# Altium integrated library Linear Technology PMIC-Switching Reg LT1074-LT8705.IntLib: 2252 symbols (part 91 of 124)
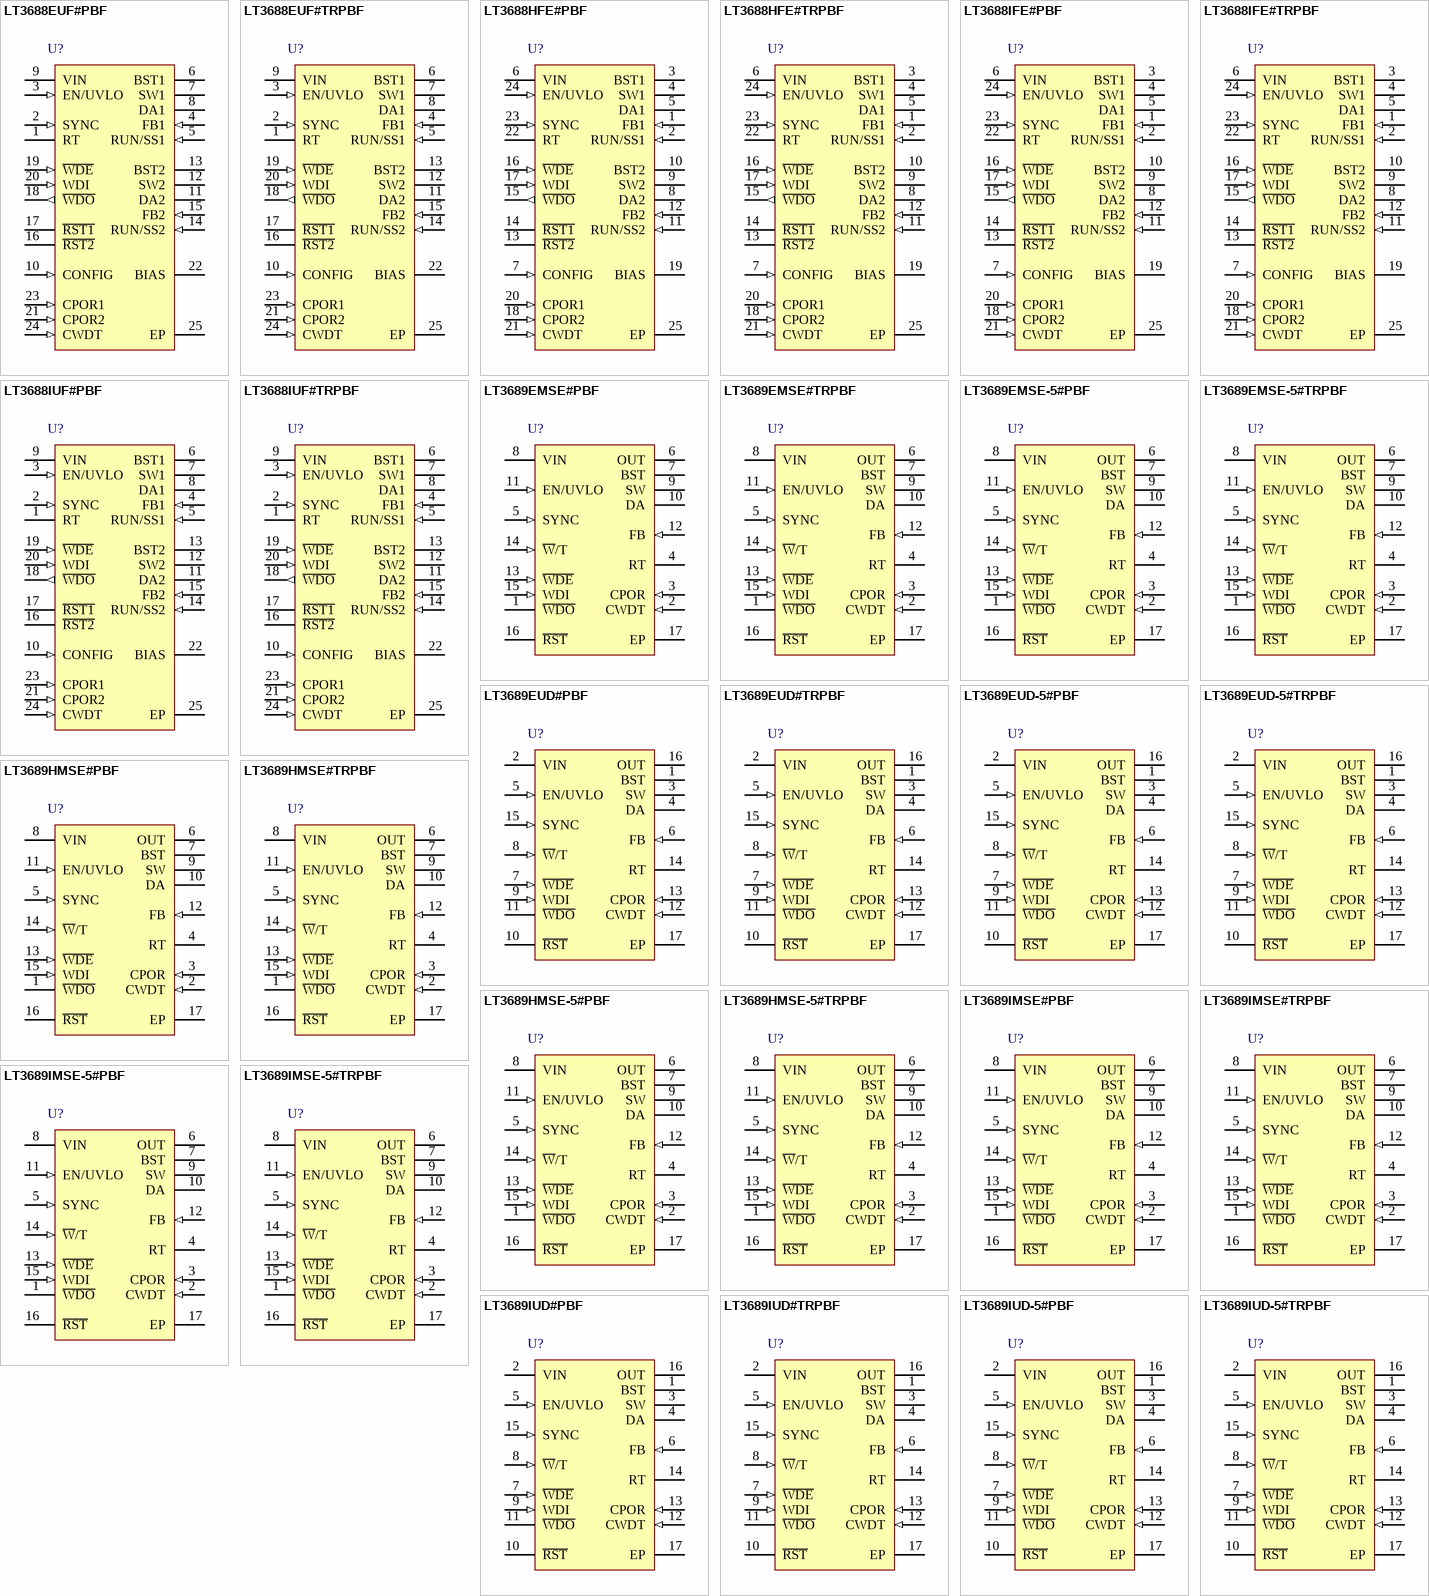
[diagram p161: symbols LT3688EUF#PBF to LT3689IUD-5#TRPBF]

## LT3689EMSE-5#TRPBF
designator U?
700 mA Step-Down Regulator with Power-On Reset and Watchdog Timer, 16-pin SOP (MSE-16-EDP), -40 to 125 degC, Pb-Free, Tape and Reel; Manufacturer: Linear Technology; PartNumber: LT3689EMSE-5#TRPBF; Number of Outputs: 1; PackageReference: MSE-16; PackageDescription: 16-Pin Plastic MSOP, Exposed Die Pad, Body 4.039 x 3 mm, Pitch 0.5 mm; Supplier 1: Digi-Key; Supplier Part Number 1: LT3689EMSE-5#TRPBF-ND; RoHS: TRUE
footprint LT-MSE-16-EDP_N (SOP, 16-Leads, Body 4.1x3.1mm, Pitch 0.5mm, Thermal Pad 2.95x1.76mm, IPC Medium Density)
footprint LT-MSE-16-EDP_L (SOP, 16-Leads, Body 4.1x3.1mm, Pitch 0.5mm, Thermal Pad 2.95x1.76mm, IPC High Density)
footprint LT-MSE-16-EDP_M (SOP, 16-Leads, Body 4.1x3.1mm, Pitch 0.5mm, Thermal Pad 2.95x1.76mm, IPC Low Density)
pins: 1 ~{WDO} (oc) "Active low, open collector logic output with weak pull-up to VOUT. W\D\O\ pulls low if the W\D\E\ is enabled and the microprocessor fails to drive the W\D\I\ pin of the LT3689 with an appropriate signal.", 2 CWDT (in) "Watchdog Timer Programming Pin. Place a capacitor (CWDT) between this pin and ground to adjust the watchdog upper and lower boundary period. To determine the watchdog upper boundary period, and the lower boundary period, use (See Datasheet)", 3 CPOR (in) "Reset Delay Timer Programming Pin. Attach an external capacitor (CPOR) to GND to set a reset delay time of 2.3ms/nF.", 4 RT "Sets the Internal Oscillator Frequency. Tie a 31.6k resistor from RT to GND for a 500kHz switching frequency.", 5 SYNC (in) "Drive the SYNC pin with a logic level signal with positive and negative pulse widths of at least 80ns. The RT resistor should be chosen to set the LT3689 switching frequency at least 20% below the lowest synchronization (See Datasheet)", 6 OUT (power) "The OUT pin supplies current to the internal circuitry when OUT is above 3V, reducing input quiescent current. The internal Schottky diode is connected from OUT to BST, providing the charging path for the boost capacitor. (See Datasheet)", 7 BST "The BST pin is used to provide drive voltage higher than the input voltage to the internal NPN power switch.", 8 VIN (power) "The VIN pin supplies current to the LT3689’s internal circuitry and to the internal power switch and must be locally bypassed.", 9 SW (power) "The SW pin is the output of the internal power switch. Connect this pin to the inductor, catch diode and boost capacitor.", 10 DA "Tie the DA pin to the anode of the external catch Schottky diode. If the DA pin current exceeds 1.2A, which could occur in an overload or short-circuit condition, switching is disabled until the DA pin current falls below 1.(See Datasheet)", 11 EN/UVLO (in) "The EN/UVLO pin is used to put the LT3689 in shutdown mode. Pull the pin below 0.3V to shut down the LT3689. The 1.26V threshold can function as an accurate undervoltage lockout (UVLO), preventing the regulator from (See Datasheet)", 12 FB (in) "The LT3689 regulates the feedback pin to 0.800V. Connect the feedback resistor divider tap to this pin. For the fixed LT3689-5 output, this pin can be used to connect a phase lead capacitor between the OUT pin and FB pin to (See Datasheet)", 13 ~{WDE} (in) "Watchdog Timer Enable Pin. This pin disables the watchdog timer if the W\D\E\ voltage exceeds 1V. W\D\O\ is high in this condition.", 14 ~{W}/T (in) "Setting W\/T low puts the LT3689 watchdog timer into window mode. If two or more negative edges occur on WDI before the watchdog lower boundary (tWDL) period expires, or no negative edge occurs within the watchdog upper (See Datasheet)", 15 WDI (in) "Watchdog Timer Input Pin. This pin receives the watchdog signal from a microprocessor. If the appropriate signal is not received, the part will pulse W\D\O\ low for a period equal to the reset timeout period. The watchdog (See Datasheet)", 16 ~{RST} (oc) "Active low, open collector logic output with a weak pull-up to VOUT. After VOUT rises above 90% of its programmed value, the reset remains asserted for the period set by the capacitor on the CPOR pin.", 17 EP (power) "Ground. Tie the exposed pad directly to the ground plane. The exposed pad metal of the package provides both electrical contact to ground and good thermal contact to the printed circuit board. The device must be soldered to (See Datasheet)"

## LT3689EUD#PBF
designator U?
700 mA Step-Down Regulator with Power-On Reset and Watchdog Timer, 16-pin QFN (UD-16), -40 to 125 degC, Pb-Free; Manufacturer: Linear Technology; PartNumber: LT3689EUD#PBF; Number of Outputs: 1; PackageReference: UD-16; PackageDescription: 16-Pin Plastic QFN, Body 3 x 3 mm, Pitch 0.5 mm; Supplier 1: Digi-Key; Supplier Part Number 1: LT3689EUD#PBF-ND; RoHS: TRUE
footprint LT-UD-16_N (QFN, 16-Leads, Body 3x3mm, Pitch 0.5mm, Thermal Pad 1.45x1.45mm, IPC Medium Density)
footprint LT-UD-16_L (QFN, 16-Leads, Body 3x3mm, Pitch 0.5mm, Thermal Pad 1.45x1.45mm, IPC High Density)
footprint LT-UD-16_M (QFN, 16-Leads, Body 3x3mm, Pitch 0.5mm, Thermal Pad 1.45x1.45mm, IPC Low Density)
pins: 1 BST (power) "The BST pin is used to provide drive voltage higher than the input voltage to the internal NPN power switch.", 2 VIN (power) "The VIN pin supplies current to the LT3689’s internal circuitry and to the internal power switch and must be locally bypassed.", 3 SW (power) "The SW pin is the output of the internal power switch. Connect this pin to the inductor, catch diode and boost capacitor.", 4 DA "Tie the DA pin to the anode of the external catch Schottky diode. If the DA pin current exceeds 1.2A, which could occur in an overload or short-circuit condition, switching is disabled until the DA pin current falls below 1.(See Datasheet)", 5 EN/UVLO (in) "The EN/UVLO pin is used to put the LT3689 in shutdown mode. Pull the pin below 0.3V to shut down the LT3689. The 1.26V threshold can function as an accurate undervoltage lockout (UVLO), preventing the regulator from (See Datasheet)", 6 FB (in) "The LT3689 regulates the feedback pin to 0.800V. Connect the feedback resistor divider tap to this pin. For the fixed LT3689-5 output, this pin can be used to connect a phase lead capacitor between the OUT pin and FB pin to (See Datasheet)", 7 ~{WDE} (in) "Watchdog Timer Enable Pin. This pin disables the watchdog timer if the W\D\E\ voltage exceeds 1V. W\D\O\ is high in this condition.", 8 ~{W}/T (in) "Setting W\/T low puts the LT3689 watchdog timer into window mode. If two or more negative edges occur on WDI before the watchdog lower boundary (tWDL) period expires, or no negative edge occurs within the watchdog upper (See Datasheet)", 9 WDI (in) "Watchdog Timer Input Pin. This pin receives the watchdog signal from a microprocessor. If the appropriate signal is not received, the part will pulse W\D\O\ low for a period equal to the reset timeout period. The watchdog (See Datasheet)", 10 ~{RST} (oc) "Active low, open collector logic output with a weak pull-up to VOUT. After VOUT rises above 90% of its programmed value, the reset remains asserted for the period set by the capacitor on the CPOR pin.", 11 ~{WDO} (oc) "Active low, open collector logic output with weak pull-up to VOUT. W\D\O\ pulls low if the W\D\E\ is enabled and the microprocessor fails to drive the WDI pin of the LT3689 with an appropriate signal.", 12 CWDT (in) "Watchdog Timer Programming Pin. Place a capacitor (CWDT) between this pin and ground to adjust the watchdog upper and lower boundary period. To determine the watchdog upper boundary period, and the lower boundary period, use (See Datasheet)", 13 CPOR (in) "Reset Delay Timer Programming Pin. Attach an external capacitor (CPOR) to GND to set a reset delay time of 2.3ms/nF.", 14 RT "Sets the Internal Oscillator Frequency. Tie a 31.6k resistor from RT to GND for a 500kHz switching frequency.", 15 SYNC (in) "Drive the SYNC pin with a logic level signal with positive and negative pulse widths of at least 80ns. The RT resistor should be chosen to set the LT3689 switching frequency at least 20% below the lowest synchronization (See Datasheet)", 16 OUT (power) "The OUT pin supplies current to the internal circuitry when OUT is above 3V, reducing input quiescent current. The internal Schottky diode is connected from OUT to BST, providing the charging path for the boost capacitor. (See Datasheet)", 17 EP (power) "Ground. Tie the exposed pad directly to the ground plane. The exposed pad metal of the package provides both electrical contact to ground and good thermal contact to the printed circuit board. The device must be soldered to (See Datasheet)"

## LT3689EUD#TRPBF
designator U?
700 mA Step-Down Regulator with Power-On Reset and Watchdog Timer, 16-pin QFN (UD-16), -40 to 125 degC, Pb-Free, Tape and Reel; Manufacturer: Linear Technology; PartNumber: LT3689EUD#TRPBF; Number of Outputs: 1; PackageReference: UD-16; PackageDescription: 16-Pin Plastic QFN, Body 3 x 3 mm, Pitch 0.5 mm; Supplier 1: Digi-Key; Supplier Part Number 1: LT3689EUD#TRPBF-ND; RoHS: TRUE
footprint LT-UD-16_N (QFN, 16-Leads, Body 3x3mm, Pitch 0.5mm, Thermal Pad 1.45x1.45mm, IPC Medium Density)
footprint LT-UD-16_L (QFN, 16-Leads, Body 3x3mm, Pitch 0.5mm, Thermal Pad 1.45x1.45mm, IPC High Density)
footprint LT-UD-16_M (QFN, 16-Leads, Body 3x3mm, Pitch 0.5mm, Thermal Pad 1.45x1.45mm, IPC Low Density)
pins: 1 BST (power) "The BST pin is used to provide drive voltage higher than the input voltage to the internal NPN power switch.", 2 VIN (power) "The VIN pin supplies current to the LT3689’s internal circuitry and to the internal power switch and must be locally bypassed.", 3 SW (power) "The SW pin is the output of the internal power switch. Connect this pin to the inductor, catch diode and boost capacitor.", 4 DA "Tie the DA pin to the anode of the external catch Schottky diode. If the DA pin current exceeds 1.2A, which could occur in an overload or short-circuit condition, switching is disabled until the DA pin current falls below 1.(See Datasheet)", 5 EN/UVLO (in) "The EN/UVLO pin is used to put the LT3689 in shutdown mode. Pull the pin below 0.3V to shut down the LT3689. The 1.26V threshold can function as an accurate undervoltage lockout (UVLO), preventing the regulator from (See Datasheet)", 6 FB (in) "The LT3689 regulates the feedback pin to 0.800V. Connect the feedback resistor divider tap to this pin. For the fixed LT3689-5 output, this pin can be used to connect a phase lead capacitor between the OUT pin and FB pin to (See Datasheet)", 7 ~{WDE} (in) "Watchdog Timer Enable Pin. This pin disables the watchdog timer if the W\D\E\ voltage exceeds 1V. W\D\O\ is high in this condition.", 8 ~{W}/T (in) "Setting W\/T low puts the LT3689 watchdog timer into window mode. If two or more negative edges occur on WDI before the watchdog lower boundary (tWDL) period expires, or no negative edge occurs within the watchdog upper (See Datasheet)", 9 WDI (in) "Watchdog Timer Input Pin. This pin receives the watchdog signal from a microprocessor. If the appropriate signal is not received, the part will pulse W\D\O\ low for a period equal to the reset timeout period. The watchdog (See Datasheet)", 10 ~{RST} (oc) "Active low, open collector logic output with a weak pull-up to VOUT. After VOUT rises above 90% of its programmed value, the reset remains asserted for the period set by the capacitor on the CPOR pin.", 11 ~{WDO} (oc) "Active low, open collector logic output with weak pull-up to VOUT. W\D\O\ pulls low if the W\D\E\ is enabled and the microprocessor fails to drive the WDI pin of the LT3689 with an appropriate signal.", 12 CWDT (in) "Watchdog Timer Programming Pin. Place a capacitor (CWDT) between this pin and ground to adjust the watchdog upper and lower boundary period. To determine the watchdog upper boundary period, and the lower boundary period, use (See Datasheet)", 13 CPOR (in) "Reset Delay Timer Programming Pin. Attach an external capacitor (CPOR) to GND to set a reset delay time of 2.3ms/nF.", 14 RT "Sets the Internal Oscillator Frequency. Tie a 31.6k resistor from RT to GND for a 500kHz switching frequency.", 15 SYNC (in) "Drive the SYNC pin with a logic level signal with positive and negative pulse widths of at least 80ns. The RT resistor should be chosen to set the LT3689 switching frequency at least 20% below the lowest synchronization (See Datasheet)", 16 OUT (power) "The OUT pin supplies current to the internal circuitry when OUT is above 3V, reducing input quiescent current. The internal Schottky diode is connected from OUT to BST, providing the charging path for the boost capacitor. (See Datasheet)", 17 EP (power) "Ground. Tie the exposed pad directly to the ground plane. The exposed pad metal of the package provides both electrical contact to ground and good thermal contact to the printed circuit board. The device must be soldered to (See Datasheet)"

## LT3689EUD-5#PBF
designator U?
700 mA Step-Down Regulator with Power-On Reset and Watchdog Timer, 16-pin QFN (UD-16), -40 to 125 degC, Pb-Free; Manufacturer: Linear Technology; PartNumber: LT3689EUD-5#PBF; Number of Outputs: 1; PackageReference: UD-16; PackageDescription: 16-Pin Plastic QFN, Body 3 x 3 mm, Pitch 0.5 mm; Supplier 1: Digi-Key; Supplier Part Number 1: LT3689EUD-5#PBF-ND; RoHS: TRUE
footprint LT-UD-16_N (QFN, 16-Leads, Body 3x3mm, Pitch 0.5mm, Thermal Pad 1.45x1.45mm, IPC Medium Density)
footprint LT-UD-16_L (QFN, 16-Leads, Body 3x3mm, Pitch 0.5mm, Thermal Pad 1.45x1.45mm, IPC High Density)
footprint LT-UD-16_M (QFN, 16-Leads, Body 3x3mm, Pitch 0.5mm, Thermal Pad 1.45x1.45mm, IPC Low Density)
pins: 1 BST "The BST pin is used to provide drive voltage higher than the input voltage to the internal NPN power switch.", 2 VIN (power) "The VIN pin supplies current to the LT3689’s internal circuitry and to the internal power switch and must be locally bypassed.", 3 SW (power) "The SW pin is the output of the internal power switch. Connect this pin to the inductor, catch diode and boost capacitor.", 4 DA "Tie the DA pin to the anode of the external catch Schottky diode. If the DA pin current exceeds 1.2A, which could occur in an overload or short-circuit condition, switching is disabled until the DA pin current falls below 1.(See Datasheet)", 5 EN/UVLO (in) "The EN/UVLO pin is used to put the LT3689 in shutdown mode. Pull the pin below 0.3V to shut down the LT3689. The 1.26V threshold can function as an accurate undervoltage lockout (UVLO), preventing the regulator from (See Datasheet)", 6 FB (in) "The LT3689 regulates the feedback pin to 0.800V. Connect the feedback resistor divider tap to this pin. For the fixed LT3689-5 output, this pin can be used to connect a phase lead capacitor between the OUT pin and FB pin to (See Datasheet)", 7 ~{WDE} (in) "Watchdog Timer Enable Pin. This pin disables the watchdog timer if the W\D\E\ voltage exceeds 1V. W\D\O\ is high in this condition.", 8 ~{W}/T (in) "Setting W\/T low puts the LT3689 watchdog timer into window mode. If two or more negative edges occur on WDI before the watchdog lower boundary (tWDL) period expires, or no negative edge occurs within the watchdog upper (See Datasheet)", 9 WDI (in) "Watchdog Timer Input Pin. This pin receives the watchdog signal from a microprocessor. If the appropriate signal is not received, the part will pulse W\D\O\ low for a period equal to the reset timeout period. The watchdog (See Datasheet)", 10 ~{RST} (oc) "Active low, open collector logic output with a weak pull-up to VOUT. After VOUT rises above 90% of its programmed value, the reset remains asserted for the period set by the capacitor on the CPOR pin.", 11 ~{WDO} (oc) "Active low, open collector logic output with weak pull-up to VOUT. W\D\O\ pulls low if the W\D\E\ is enabled and the microprocessor fails to drive the WDI pin of the LT3689 with an appropriate signal.", 12 CWDT (in) "Watchdog Timer Programming Pin. Place a capacitor (CWDT) between this pin and ground to adjust the watchdog upper and lower boundary period. To determine the watchdog upper boundary period, and the lower boundary period, use (See Datasheet)", 13 CPOR (in) "Reset Delay Timer Programming Pin. Attach an external capacitor (CPOR) to GND to set a reset delay time of 2.3ms/nF.", 14 RT "Sets the Internal Oscillator Frequency. Tie a 31.6k resistor from RT to GND for a 500kHz switching frequency.", 15 SYNC (in) "Drive the SYNC pin with a logic level signal with positive and negative pulse widths of at least 80ns. The RT resistor should be chosen to set the LT3689 switching frequency at least 20% below the lowest synchronization (See Datasheet)", 16 OUT (power) "The OUT pin supplies current to the internal circuitry when OUT is above 3V, reducing input quiescent current. The internal Schottky diode is connected from OUT to BST, providing the charging path for the boost capacitor. (See Datasheet)", 17 EP (power) "Ground. Tie the exposed pad directly to the ground plane. The exposed pad metal of the package provides both electrical contact to ground and good thermal contact to the printed circuit board. The device must be soldered to (See Datasheet)"

## LT3689EUD-5#TRPBF
designator U?
700 mA Step-Down Regulator with Power-On Reset and Watchdog Timer, 16-pin QFN (UD-16), -40 to 125 degC, Pb-Free, Tape and Reel; Manufacturer: Linear Technology; PartNumber: LT3689EUD-5#TRPBF; Number of Outputs: 1; PackageReference: UD-16; PackageDescription: 16-Pin Plastic QFN, Body 3 x 3 mm, Pitch 0.5 mm; Supplier 1: Digi-Key; Supplier Part Number 1: LT3689EUD-5#TRPBF-ND; RoHS: TRUE
footprint LT-UD-16_N (QFN, 16-Leads, Body 3x3mm, Pitch 0.5mm, Thermal Pad 1.45x1.45mm, IPC Medium Density)
footprint LT-UD-16_L (QFN, 16-Leads, Body 3x3mm, Pitch 0.5mm, Thermal Pad 1.45x1.45mm, IPC High Density)
footprint LT-UD-16_M (QFN, 16-Leads, Body 3x3mm, Pitch 0.5mm, Thermal Pad 1.45x1.45mm, IPC Low Density)
pins: 1 BST "The BST pin is used to provide drive voltage higher than the input voltage to the internal NPN power switch.", 2 VIN (power) "The VIN pin supplies current to the LT3689’s internal circuitry and to the internal power switch and must be locally bypassed.", 3 SW (power) "The SW pin is the output of the internal power switch. Connect this pin to the inductor, catch diode and boost capacitor.", 4 DA "Tie the DA pin to the anode of the external catch Schottky diode. If the DA pin current exceeds 1.2A, which could occur in an overload or short-circuit condition, switching is disabled until the DA pin current falls below 1.(See Datasheet)", 5 EN/UVLO (in) "The EN/UVLO pin is used to put the LT3689 in shutdown mode. Pull the pin below 0.3V to shut down the LT3689. The 1.26V threshold can function as an accurate undervoltage lockout (UVLO), preventing the regulator from (See Datasheet)", 6 FB (in) "The LT3689 regulates the feedback pin to 0.800V. Connect the feedback resistor divider tap to this pin. For the fixed LT3689-5 output, this pin can be used to connect a phase lead capacitor between the OUT pin and FB pin to (See Datasheet)", 7 ~{WDE} (in) "Watchdog Timer Enable Pin. This pin disables the watchdog timer if the W\D\E\ voltage exceeds 1V. W\D\O\ is high in this condition.", 8 ~{W}/T (in) "Setting W\/T low puts the LT3689 watchdog timer into window mode. If two or more negative edges occur on WDI before the watchdog lower boundary (tWDL) period expires, or no negative edge occurs within the watchdog upper (See Datasheet)", 9 WDI (in) "Watchdog Timer Input Pin. This pin receives the watchdog signal from a microprocessor. If the appropriate signal is not received, the part will pulse W\D\O\ low for a period equal to the reset timeout period. The watchdog (See Datasheet)", 10 ~{RST} (oc) "Active low, open collector logic output with a weak pull-up to VOUT. After VOUT rises above 90% of its programmed value, the reset remains asserted for the period set by the capacitor on the CPOR pin.", 11 ~{WDO} (oc) "Active low, open collector logic output with weak pull-up to VOUT. W\D\O\ pulls low if the W\D\E\ is enabled and the microprocessor fails to drive the WDI pin of the LT3689 with an appropriate signal.", 12 CWDT (in) "Watchdog Timer Programming Pin. Place a capacitor (CWDT) between this pin and ground to adjust the watchdog upper and lower boundary period. To determine the watchdog upper boundary period, and the lower boundary period, use (See Datasheet)", 13 CPOR (in) "Reset Delay Timer Programming Pin. Attach an external capacitor (CPOR) to GND to set a reset delay time of 2.3ms/nF.", 14 RT "Sets the Internal Oscillator Frequency. Tie a 31.6k resistor from RT to GND for a 500kHz switching frequency.", 15 SYNC (in) "Drive the SYNC pin with a logic level signal with positive and negative pulse widths of at least 80ns. The RT resistor should be chosen to set the LT3689 switching frequency at least 20% below the lowest synchronization (See Datasheet)", 16 OUT (power) "The OUT pin supplies current to the internal circuitry when OUT is above 3V, reducing input quiescent current. The internal Schottky diode is connected from OUT to BST, providing the charging path for the boost capacitor. (See Datasheet)", 17 EP (power) "Ground. Tie the exposed pad directly to the ground plane. The exposed pad metal of the package provides both electrical contact to ground and good thermal contact to the printed circuit board. The device must be soldered to (See Datasheet)"

## LT3689HMSE#PBF
designator U?
700 mA Step-Down Regulator with Power-On Reset and Watchdog Timer, 16-pin SOP (MSE-16-EDP), -40 to 150 degC, Pb-Free; Manufacturer: Linear Technology; PartNumber: LT3689HMSE#PBF; Number of Outputs: 1; PackageReference: MSE-16; PackageDescription: 16-Pin Plastic MSOP, Exposed Die Pad, Body 4.039 x 3 mm, Pitch 0.5 mm; Supplier 1: Digi-Key; Supplier Part Number 1: LT3689HMSE#PBF-ND; RoHS: TRUE
footprint LT-MSE-16-EDP_N (SOP, 16-Leads, Body 4.1x3.1mm, Pitch 0.5mm, Thermal Pad 2.95x1.76mm, IPC Medium Density)
footprint LT-MSE-16-EDP_L (SOP, 16-Leads, Body 4.1x3.1mm, Pitch 0.5mm, Thermal Pad 2.95x1.76mm, IPC High Density)
footprint LT-MSE-16-EDP_M (SOP, 16-Leads, Body 4.1x3.1mm, Pitch 0.5mm, Thermal Pad 2.95x1.76mm, IPC Low Density)
pins: 1 ~{WDO} (oc) "Active low, open collector logic output with weak pull-up to VOUT. W\D\O\ pulls low if the W\D\E\ is enabled and the microprocessor fails to drive the WDI pin of the LT3689 with an appropriate signal.", 2 CWDT (in) "Watchdog Timer Programming Pin. Place a capacitor (CWDT) between this pin and ground to adjust the watchdog upper and lower boundary period. To determine the watchdog upper boundary period, and the lower boundary period, use (See Datasheet)", 3 CPOR (in) "Reset Delay Timer Programming Pin. Attach an external capacitor (CPOR) to GND to set a reset delay time of 2.3ms/nF.", 4 RT "Sets the Internal Oscillator Frequency. Tie a 31.6k resistor from RT to GND for a 500kHz switching frequency.", 5 SYNC (in) "Drive the SYNC pin with a logic level signal with positive and negative pulse widths of at least 80ns. The RT resistor should be chosen to set the LT3689 switching frequency at least 20% below the lowest synchronization (See Datasheet)", 6 OUT (power) "The OUT pin supplies current to the internal circuitry when OUT is above 3V, reducing input quiescent current. The internal Schottky diode is connected from OUT to BST, providing the charging path for the boost capacitor. (See Datasheet)", 7 BST (power) "The BST pin is used to provide drive voltage higher than the input voltage to the internal NPN power switch.", 8 VIN (power) "The VIN pin supplies current to the LT3689’s internal circuitry and to the internal power switch and must be locally bypassed.", 9 SW "The SW pin is the output of the internal power switch. Connect this pin to the inductor, catch diode and boost capacitor.", 10 DA "Tie the DA pin to the anode of the external catch Schottky diode. If the DA pin current exceeds 1.2A, which could occur in an overload or short-circuit condition, switching is disabled until the DA pin current falls below 1.(See Datasheet)", 11 EN/UVLO (in) "The EN/UVLO pin is used to put the LT3689 in shutdown mode. Pull the pin below 0.3V to shut down the LT3689. The 1.26V threshold can function as an accurate undervoltage lockout (UVLO), preventing the regulator from (See Datasheet)", 12 FB (in) "The LT3689 regulates the feedback pin to 0.800V. Connect the feedback resistor divider tap to this pin. For the fixed LT3689-5 output, this pin can be used to connect a phase lead capacitor between the OUT pin and FB pin to (See Datasheet)", 13 ~{WDE} (in) "Watchdog Timer Enable Pin. This pin disables the watchdog timer if the W\D\E\ voltage exceeds 1V. W\D\O\ is high in this condition.", 14 ~{W}/T (in) "Setting W\/T low puts the LT3689 watchdog timer into window mode. If two or more negative edges occur on WDI before the watchdog lower boundary (tWDL) period expires, or no negative edge occurs within the watchdog upper (See Datasheet)", 15 WDI (in) "Watchdog Timer Input Pin. This pin receives the watchdog signal from a microprocessor. If the appropriate signal is not received, the part will pulse W\D\O\ low for a period equal to the reset timeout period. The watchdog (See Datasheet)", 16 ~{RST} (oc) "Active low, open collector logic output with a weak pull-up to VOUT. After VOUT rises above 90% of its programmed value, the reset remains asserted for the period set by the capacitor on the CPOR pin.", 17 EP (power) "Ground. Tie the exposed pad directly to the ground plane. The exposed pad metal of the package provides both electrical contact to ground and good thermal contact to the printed circuit board. The device must be soldered to (See Datasheet)"

## LT3689HMSE#TRPBF
designator U?
700 mA Step-Down Regulator with Power-On Reset and Watchdog Timer, 16-pin SOP (MSE-16-EDP), -40 to 150 degC, Pb-Free, Tape and Reel; Manufacturer: Linear Technology; PartNumber: LT3689HMSE#TRPBF; Number of Outputs: 1; PackageReference: MSE-16; PackageDescription: 16-Pin Plastic MSOP, Exposed Die Pad, Body 4.039 x 3 mm, Pitch 0.5 mm; Supplier 1: Digi-Key; Supplier Part Number 1: LT3689HMSE#TRPBF-ND; RoHS: TRUE
footprint LT-MSE-16-EDP_N (SOP, 16-Leads, Body 4.1x3.1mm, Pitch 0.5mm, Thermal Pad 2.95x1.76mm, IPC Medium Density)
footprint LT-MSE-16-EDP_L (SOP, 16-Leads, Body 4.1x3.1mm, Pitch 0.5mm, Thermal Pad 2.95x1.76mm, IPC High Density)
footprint LT-MSE-16-EDP_M (SOP, 16-Leads, Body 4.1x3.1mm, Pitch 0.5mm, Thermal Pad 2.95x1.76mm, IPC Low Density)
pins: 1 ~{WDO} (oc) "Active low, open collector logic output with weak pull-up to VOUT. W\D\O\ pulls low if the W\D\E\ is enabled and the microprocessor fails to drive the WDI pin of the LT3689 with an appropriate signal.", 2 CWDT (in) "Watchdog Timer Programming Pin. Place a capacitor (CWDT) between this pin and ground to adjust the watchdog upper and lower boundary period. To determine the watchdog upper boundary period, and the lower boundary period, use (See Datasheet)", 3 CPOR (in) "Reset Delay Timer Programming Pin. Attach an external capacitor (CPOR) to GND to set a reset delay time of 2.3ms/nF.", 4 RT "Sets the Internal Oscillator Frequency. Tie a 31.6k resistor from RT to GND for a 500kHz switching frequency.", 5 SYNC (in) "Drive the SYNC pin with a logic level signal with positive and negative pulse widths of at least 80ns. The RT resistor should be chosen to set the LT3689 switching frequency at least 20% below the lowest synchronization (See Datasheet)", 6 OUT (power) "The OUT pin supplies current to the internal circuitry when OUT is above 3V, reducing input quiescent current. The internal Schottky diode is connected from OUT to BST, providing the charging path for the boost capacitor. (See Datasheet)", 7 BST (power) "The BST pin is used to provide drive voltage higher than the input voltage to the internal NPN power switch.", 8 VIN (power) "The VIN pin supplies current to the LT3689’s internal circuitry and to the internal power switch and must be locally bypassed.", 9 SW "The SW pin is the output of the internal power switch. Connect this pin to the inductor, catch diode and boost capacitor.", 10 DA "Tie the DA pin to the anode of the external catch Schottky diode. If the DA pin current exceeds 1.2A, which could occur in an overload or short-circuit condition, switching is disabled until the DA pin current falls below 1.(See Datasheet)", 11 EN/UVLO (in) "The EN/UVLO pin is used to put the LT3689 in shutdown mode. Pull the pin below 0.3V to shut down the LT3689. The 1.26V threshold can function as an accurate undervoltage lockout (UVLO), preventing the regulator from (See Datasheet)", 12 FB (in) "The LT3689 regulates the feedback pin to 0.800V. Connect the feedback resistor divider tap to this pin. For the fixed LT3689-5 output, this pin can be used to connect a phase lead capacitor between the OUT pin and FB pin to (See Datasheet)", 13 ~{WDE} (in) "Watchdog Timer Enable Pin. This pin disables the watchdog timer if the W\D\E\ voltage exceeds 1V. W\D\O\ is high in this condition.", 14 ~{W}/T (in) "Setting W\/T low puts the LT3689 watchdog timer into window mode. If two or more negative edges occur on WDI before the watchdog lower boundary (tWDL) period expires, or no negative edge occurs within the watchdog upper (See Datasheet)", 15 WDI (in) "Watchdog Timer Input Pin. This pin receives the watchdog signal from a microprocessor. If the appropriate signal is not received, the part will pulse W\D\O\ low for a period equal to the reset timeout period. The watchdog (See Datasheet)", 16 ~{RST} (oc) "Active low, open collector logic output with a weak pull-up to VOUT. After VOUT rises above 90% of its programmed value, the reset remains asserted for the period set by the capacitor on the CPOR pin.", 17 EP (power) "Ground. Tie the exposed pad directly to the ground plane. The exposed pad metal of the package provides both electrical contact to ground and good thermal contact to the printed circuit board. The device must be soldered to (See Datasheet)"

## LT3689HMSE-5#PBF
designator U?
700 mA Step-Down Regulator with Power-On Reset and Watchdog Timer, 16-pin SOP (MSE-16-EDP), -40 to 150 degC, Pb-Free; Manufacturer: Linear Technology; PartNumber: LT3689HMSE-5#PBF; Number of Outputs: 1; PackageReference: MSE-16; PackageDescription: 16-Pin Plastic MSOP, Exposed Die Pad, Body 4.039 x 3 mm, Pitch 0.5 mm; Supplier 1: Digi-Key; Supplier Part Number 1: LT3689HMSE-5#PBF-ND; RoHS: TRUE
footprint LT-MSE-16-EDP_N (SOP, 16-Leads, Body 4.1x3.1mm, Pitch 0.5mm, Thermal Pad 2.95x1.76mm, IPC Medium Density)
footprint LT-MSE-16-EDP_L (SOP, 16-Leads, Body 4.1x3.1mm, Pitch 0.5mm, Thermal Pad 2.95x1.76mm, IPC High Density)
footprint LT-MSE-16-EDP_M (SOP, 16-Leads, Body 4.1x3.1mm, Pitch 0.5mm, Thermal Pad 2.95x1.76mm, IPC Low Density)
pins: 1 ~{WDO} (oc) "Active low, open collector logic output with weak pull-up to VOUT. W\D\O\ pulls low if the W\D\E\ is enabled and the microprocessor fails to drive the W\D\I\ pin of the LT3689 with an appropriate signal.", 2 CWDT (in) "Watchdog Timer Programming Pin. Place a capacitor (CWDT) between this pin and ground to adjust the watchdog upper and lower boundary period. To determine the watchdog upper boundary period, and the lower boundary period, use (See Datasheet)", 3 CPOR (in) "Reset Delay Timer Programming Pin. Attach an external capacitor (CPOR) to GND to set a reset delay time of 2.3ms/nF.", 4 RT "Sets the Internal Oscillator Frequency. Tie a 31.6k resistor from RT to GND for a 500kHz switching frequency.", 5 SYNC (in) "Drive the SYNC pin with a logic level signal with positive and negative pulse widths of at least 80ns. The RT resistor should be chosen to set the LT3689 switching frequency at least 20% below the lowest synchronization (See Datasheet)", 6 OUT (power) "The OUT pin supplies current to the internal circuitry when OUT is above 3V, reducing input quiescent current. The internal Schottky diode is connected from OUT to BST, providing the charging path for the boost capacitor. (See Datasheet)", 7 BST "The BST pin is used to provide drive voltage higher than the input voltage to the internal NPN power switch.", 8 VIN (power) "The VIN pin supplies current to the LT3689’s internal circuitry and to the internal power switch and must be locally bypassed.", 9 SW (power) "The SW pin is the output of the internal power switch. Connect this pin to the inductor, catch diode and boost capacitor.", 10 DA "Tie the DA pin to the anode of the external catch Schottky diode. If the DA pin current exceeds 1.2A, which could occur in an overload or short-circuit condition, switching is disabled until the DA pin current falls below 1.(See Datasheet)", 11 EN/UVLO (in) "The EN/UVLO pin is used to put the LT3689 in shutdown mode. Pull the pin below 0.3V to shut down the LT3689. The 1.26V threshold can function as an accurate undervoltage lockout (UVLO), preventing the regulator from (See Datasheet)", 12 FB (in) "The LT3689 regulates the feedback pin to 0.800V. Connect the feedback resistor divider tap to this pin. For the fixed LT3689-5 output, this pin can be used to connect a phase lead capacitor between the OUT pin and FB pin to (See Datasheet)", 13 ~{WDE} (in) "Watchdog Timer Enable Pin. This pin disables the watchdog timer if the W\D\E\ voltage exceeds 1V. W\D\O\ is high in this condition.", 14 ~{W}/T (in) "Setting W\/T low puts the LT3689 watchdog timer into window mode. If two or more negative edges occur on WDI before the watchdog lower boundary (tWDL) period expires, or no negative edge occurs within the watchdog upper (See Datasheet)", 15 WDI (in) "Watchdog Timer Input Pin. This pin receives the watchdog signal from a microprocessor. If the appropriate signal is not received, the part will pulse W\D\O\ low for a period equal to the reset timeout period. The watchdog (See Datasheet)", 16 ~{RST} (oc) "Active low, open collector logic output with a weak pull-up to VOUT. After VOUT rises above 90% of its programmed value, the reset remains asserted for the period set by the capacitor on the CPOR pin.", 17 EP (power) "Ground. Tie the exposed pad directly to the ground plane. The exposed pad metal of the package provides both electrical contact to ground and good thermal contact to the printed circuit board. The device must be soldered to (See Datasheet)"

## LT3689HMSE-5#TRPBF
designator U?
700 mA Step-Down Regulator with Power-On Reset and Watchdog Timer, 16-pin SOP (MSE-16-EDP), -40 to 150 degC, Pb-Free, Tape and Reel; Manufacturer: Linear Technology; PartNumber: LT3689HMSE-5#TRPBF; Number of Outputs: 1; PackageReference: MSE-16; PackageDescription: 16-Pin Plastic MSOP, Exposed Die Pad, Body 4.039 x 3 mm, Pitch 0.5 mm; Supplier 1: Digi-Key; Supplier Part Number 1: LT3689HMSE-5#TRPBF-ND; RoHS: TRUE
footprint LT-MSE-16-EDP_N (SOP, 16-Leads, Body 4.1x3.1mm, Pitch 0.5mm, Thermal Pad 2.95x1.76mm, IPC Medium Density)
footprint LT-MSE-16-EDP_L (SOP, 16-Leads, Body 4.1x3.1mm, Pitch 0.5mm, Thermal Pad 2.95x1.76mm, IPC High Density)
footprint LT-MSE-16-EDP_M (SOP, 16-Leads, Body 4.1x3.1mm, Pitch 0.5mm, Thermal Pad 2.95x1.76mm, IPC Low Density)
pins: 1 ~{WDO} (oc) "Active low, open collector logic output with weak pull-up to VOUT. W\D\O\ pulls low if the W\D\E\ is enabled and the microprocessor fails to drive the W\D\I\ pin of the LT3689 with an appropriate signal.", 2 CWDT (in) "Watchdog Timer Programming Pin. Place a capacitor (CWDT) between this pin and ground to adjust the watchdog upper and lower boundary period. To determine the watchdog upper boundary period, and the lower boundary period, use (See Datasheet)", 3 CPOR (in) "Reset Delay Timer Programming Pin. Attach an external capacitor (CPOR) to GND to set a reset delay time of 2.3ms/nF.", 4 RT "Sets the Internal Oscillator Frequency. Tie a 31.6k resistor from RT to GND for a 500kHz switching frequency.", 5 SYNC (in) "Drive the SYNC pin with a logic level signal with positive and negative pulse widths of at least 80ns. The RT resistor should be chosen to set the LT3689 switching frequency at least 20% below the lowest synchronization (See Datasheet)", 6 OUT (power) "The OUT pin supplies current to the internal circuitry when OUT is above 3V, reducing input quiescent current. The internal Schottky diode is connected from OUT to BST, providing the charging path for the boost capacitor. (See Datasheet)", 7 BST "The BST pin is used to provide drive voltage higher than the input voltage to the internal NPN power switch.", 8 VIN (power) "The VIN pin supplies current to the LT3689’s internal circuitry and to the internal power switch and must be locally bypassed.", 9 SW (power) "The SW pin is the output of the internal power switch. Connect this pin to the inductor, catch diode and boost capacitor.", 10 DA "Tie the DA pin to the anode of the external catch Schottky diode. If the DA pin current exceeds 1.2A, which could occur in an overload or short-circuit condition, switching is disabled until the DA pin current falls below 1.(See Datasheet)", 11 EN/UVLO (in) "The EN/UVLO pin is used to put the LT3689 in shutdown mode. Pull the pin below 0.3V to shut down the LT3689. The 1.26V threshold can function as an accurate undervoltage lockout (UVLO), preventing the regulator from (See Datasheet)", 12 FB (in) "The LT3689 regulates the feedback pin to 0.800V. Connect the feedback resistor divider tap to this pin. For the fixed LT3689-5 output, this pin can be used to connect a phase lead capacitor between the OUT pin and FB pin to (See Datasheet)", 13 ~{WDE} (in) "Watchdog Timer Enable Pin. This pin disables the watchdog timer if the W\D\E\ voltage exceeds 1V. W\D\O\ is high in this condition.", 14 ~{W}/T (in) "Setting W\/T low puts the LT3689 watchdog timer into window mode. If two or more negative edges occur on WDI before the watchdog lower boundary (tWDL) period expires, or no negative edge occurs within the watchdog upper (See Datasheet)", 15 WDI (in) "Watchdog Timer Input Pin. This pin receives the watchdog signal from a microprocessor. If the appropriate signal is not received, the part will pulse W\D\O\ low for a period equal to the reset timeout period. The watchdog (See Datasheet)", 16 ~{RST} (oc) "Active low, open collector logic output with a weak pull-up to VOUT. After VOUT rises above 90% of its programmed value, the reset remains asserted for the period set by the capacitor on the CPOR pin.", 17 EP (power) "Ground. Tie the exposed pad directly to the ground plane. The exposed pad metal of the package provides both electrical contact to ground and good thermal contact to the printed circuit board. The device must be soldered to (See Datasheet)"

## LT3689IMSE#PBF
designator U?
700 mA Step-Down Regulator with Power-On Reset and Watchdog Timer, 16-pin SOP (MSE-16-EDP), -40 to 125 degC, Pb-Free; Manufacturer: Linear Technology; PartNumber: LT3689IMSE#PBF; Number of Outputs: 1; PackageReference: MSE-16; PackageDescription: 16-Pin Plastic MSOP, Exposed Die Pad, Body 4.039 x 3 mm, Pitch 0.5 mm; Supplier 1: Digi-Key; Supplier Part Number 1: LT3689IMSE#PBF-ND; RoHS: TRUE
footprint LT-MSE-16-EDP_N (SOP, 16-Leads, Body 4.1x3.1mm, Pitch 0.5mm, Thermal Pad 2.95x1.76mm, IPC Medium Density)
footprint LT-MSE-16-EDP_L (SOP, 16-Leads, Body 4.1x3.1mm, Pitch 0.5mm, Thermal Pad 2.95x1.76mm, IPC High Density)
footprint LT-MSE-16-EDP_M (SOP, 16-Leads, Body 4.1x3.1mm, Pitch 0.5mm, Thermal Pad 2.95x1.76mm, IPC Low Density)
pins: 1 ~{WDO} (oc) "Active low, open collector logic output with weak pull-up to VOUT. W\D\O\ pulls low if the W\D\E\ is enabled and the microprocessor fails to drive the WDI pin of the LT3689 with an appropriate signal.", 2 CWDT (in) "Watchdog Timer Programming Pin. Place a capacitor (CWDT) between this pin and ground to adjust the watchdog upper and lower boundary period. To determine the watchdog upper boundary period, and the lower boundary period, use (See Datasheet)", 3 CPOR (in) "Reset Delay Timer Programming Pin. Attach an external capacitor (CPOR) to GND to set a reset delay time of 2.3ms/nF.", 4 RT "Sets the Internal Oscillator Frequency. Tie a 31.6k resistor from RT to GND for a 500kHz switching frequency.", 5 SYNC (in) "Drive the SYNC pin with a logic level signal with positive and negative pulse widths of at least 80ns. The RT resistor should be chosen to set the LT3689 switching frequency at least 20% below the lowest synchronization (See Datasheet)", 6 OUT (power) "The OUT pin supplies current to the internal circuitry when OUT is above 3V, reducing input quiescent current. The internal Schottky diode is connected from OUT to BST, providing the charging path for the boost capacitor. (See Datasheet)", 7 BST (power) "The BST pin is used to provide drive voltage higher than the input voltage to the internal NPN power switch.", 8 VIN (power) "The VIN pin supplies current to the LT3689’s internal circuitry and to the internal power switch and must be locally bypassed.", 9 SW "The SW pin is the output of the internal power switch. Connect this pin to the inductor, catch diode and boost capacitor.", 10 DA "Tie the DA pin to the anode of the external catch Schottky diode. If the DA pin current exceeds 1.2A, which could occur in an overload or short-circuit condition, switching is disabled until the DA pin current falls below 1.(See Datasheet)", 11 EN/UVLO (in) "The EN/UVLO pin is used to put the LT3689 in shutdown mode. Pull the pin below 0.3V to shut down the LT3689. The 1.26V threshold can function as an accurate undervoltage lockout (UVLO), preventing the regulator from (See Datasheet)", 12 FB (in) "The LT3689 regulates the feedback pin to 0.800V. Connect the feedback resistor divider tap to this pin. For the fixed LT3689-5 output, this pin can be used to connect a phase lead capacitor between the OUT pin and FB pin to (See Datasheet)", 13 ~{WDE} (in) "Watchdog Timer Enable Pin. This pin disables the watchdog timer if the W\D\E\ voltage exceeds 1V. W\D\O\ is high in this condition.", 14 ~{W}/T (in) "Setting W\/T low puts the LT3689 watchdog timer into window mode. If two or more negative edges occur on WDI before the watchdog lower boundary (tWDL) period expires, or no negative edge occurs within the watchdog upper (See Datasheet)", 15 WDI (in) "Watchdog Timer Input Pin. This pin receives the watchdog signal from a microprocessor. If the appropriate signal is not received, the part will pulse W\D\O\ low for a period equal to the reset timeout period. The watchdog (See Datasheet)", 16 ~{RST} (oc) "Active low, open collector logic output with a weak pull-up to VOUT. After VOUT rises above 90% of its programmed value, the reset remains asserted for the period set by the capacitor on the CPOR pin.", 17 EP (power) "Ground. Tie the exposed pad directly to the ground plane. The exposed pad metal of the package provides both electrical contact to ground and good thermal contact to the printed circuit board. The device must be soldered to (See Datasheet)"

## LT3689IMSE#TRPBF
designator U?
700 mA Step-Down Regulator with Power-On Reset and Watchdog Timer, 16-pin SOP (MSE-16-EDP), -40 to 125 degC, Pb-Free, Tape and Reel; Manufacturer: Linear Technology; PartNumber: LT3689IMSE#TRPBF; Number of Outputs: 1; PackageReference: MSE-16; PackageDescription: 16-Pin Plastic MSOP, Exposed Die Pad, Body 4.039 x 3 mm, Pitch 0.5 mm; Supplier 1: Digi-Key; Supplier Part Number 1: LT3689IMSE#TRPBF-ND; RoHS: TRUE
footprint LT-MSE-16-EDP_N (SOP, 16-Leads, Body 4.1x3.1mm, Pitch 0.5mm, Thermal Pad 2.95x1.76mm, IPC Medium Density)
footprint LT-MSE-16-EDP_L (SOP, 16-Leads, Body 4.1x3.1mm, Pitch 0.5mm, Thermal Pad 2.95x1.76mm, IPC High Density)
footprint LT-MSE-16-EDP_M (SOP, 16-Leads, Body 4.1x3.1mm, Pitch 0.5mm, Thermal Pad 2.95x1.76mm, IPC Low Density)
pins: 1 ~{WDO} (oc) "Active low, open collector logic output with weak pull-up to VOUT. W\D\O\ pulls low if the W\D\E\ is enabled and the microprocessor fails to drive the WDI pin of the LT3689 with an appropriate signal.", 2 CWDT (in) "Watchdog Timer Programming Pin. Place a capacitor (CWDT) between this pin and ground to adjust the watchdog upper and lower boundary period. To determine the watchdog upper boundary period, and the lower boundary period, use (See Datasheet)", 3 CPOR (in) "Reset Delay Timer Programming Pin. Attach an external capacitor (CPOR) to GND to set a reset delay time of 2.3ms/nF.", 4 RT "Sets the Internal Oscillator Frequency. Tie a 31.6k resistor from RT to GND for a 500kHz switching frequency.", 5 SYNC (in) "Drive the SYNC pin with a logic level signal with positive and negative pulse widths of at least 80ns. The RT resistor should be chosen to set the LT3689 switching frequency at least 20% below the lowest synchronization (See Datasheet)", 6 OUT (power) "The OUT pin supplies current to the internal circuitry when OUT is above 3V, reducing input quiescent current. The internal Schottky diode is connected from OUT to BST, providing the charging path for the boost capacitor. (See Datasheet)", 7 BST (power) "The BST pin is used to provide drive voltage higher than the input voltage to the internal NPN power switch.", 8 VIN (power) "The VIN pin supplies current to the LT3689’s internal circuitry and to the internal power switch and must be locally bypassed.", 9 SW "The SW pin is the output of the internal power switch. Connect this pin to the inductor, catch diode and boost capacitor.", 10 DA "Tie the DA pin to the anode of the external catch Schottky diode. If the DA pin current exceeds 1.2A, which could occur in an overload or short-circuit condition, switching is disabled until the DA pin current falls below 1.(See Datasheet)", 11 EN/UVLO (in) "The EN/UVLO pin is used to put the LT3689 in shutdown mode. Pull the pin below 0.3V to shut down the LT3689. The 1.26V threshold can function as an accurate undervoltage lockout (UVLO), preventing the regulator from (See Datasheet)", 12 FB (in) "The LT3689 regulates the feedback pin to 0.800V. Connect the feedback resistor divider tap to this pin. For the fixed LT3689-5 output, this pin can be used to connect a phase lead capacitor between the OUT pin and FB pin to (See Datasheet)", 13 ~{WDE} (in) "Watchdog Timer Enable Pin. This pin disables the watchdog timer if the W\D\E\ voltage exceeds 1V. W\D\O\ is high in this condition.", 14 ~{W}/T (in) "Setting W\/T low puts the LT3689 watchdog timer into window mode. If two or more negative edges occur on WDI before the watchdog lower boundary (tWDL) period expires, or no negative edge occurs within the watchdog upper (See Datasheet)", 15 WDI (in) "Watchdog Timer Input Pin. This pin receives the watchdog signal from a microprocessor. If the appropriate signal is not received, the part will pulse W\D\O\ low for a period equal to the reset timeout period. The watchdog (See Datasheet)", 16 ~{RST} (oc) "Active low, open collector logic output with a weak pull-up to VOUT. After VOUT rises above 90% of its programmed value, the reset remains asserted for the period set by the capacitor on the CPOR pin.", 17 EP (power) "Ground. Tie the exposed pad directly to the ground plane. The exposed pad metal of the package provides both electrical contact to ground and good thermal contact to the printed circuit board. The device must be soldered to (See Datasheet)"